# Altium footprint library R02016-STD.PcbLib: 1 footprints
Each footprint in its own frame and in the unit in brackets; x right, y up, seen from the top. Pads: shape width x height; smd on the part's side, far side on the other; paste and mask are expansions set on the pad; w line width, h text height; cw(c..) or ccw(c..) is an arc to the next point about the centre after c.
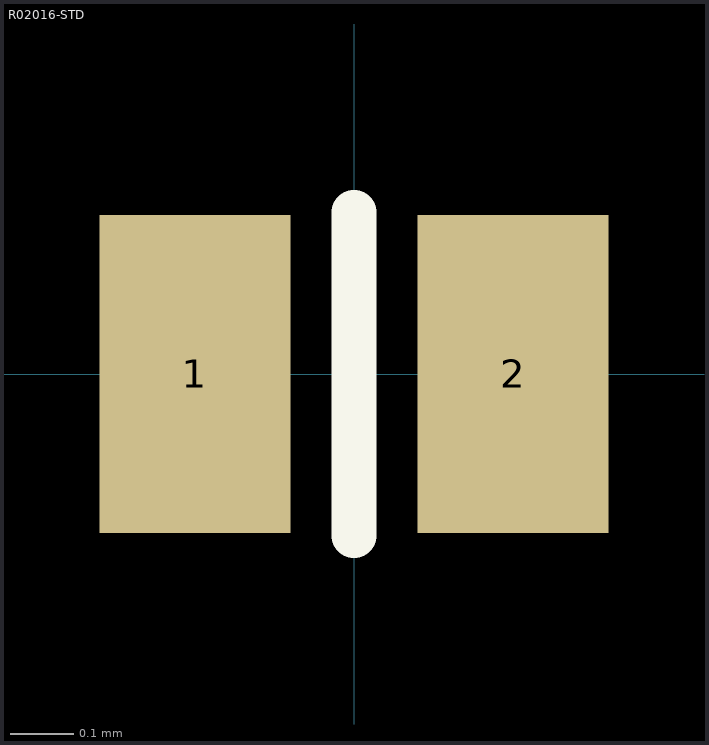
[diagram p0: the footprint, top view; thin cyan lines are the x and y axes]

## R02016-STD [mm] "Flip Chip Capacitor, Body 02016 resistor"
height 0.4
pads (2):
  rect 0.3x0.5 smd mask+0.08: 1(-0.25,0) 2(0.25,0)
Top Overlay:
  lines w0.07: 0,-0.254 0,0.254
3D body: height 0.4, standoff 0, extent -0.5,-0.25 0.5,0.25